# Altium footprint library CAP_VISHAY_K_SERIES_15_L2.PcbLib: 1 footprints
Each footprint in its own frame and in the unit in brackets; x right, y up, seen from the top. Pads: shape width x height; smd on the part's side, far side on the other; paste and mask are expansions set on the pad; w line width, h text height; cw(c..) or ccw(c..) is an arc to the next point about the centre after c.
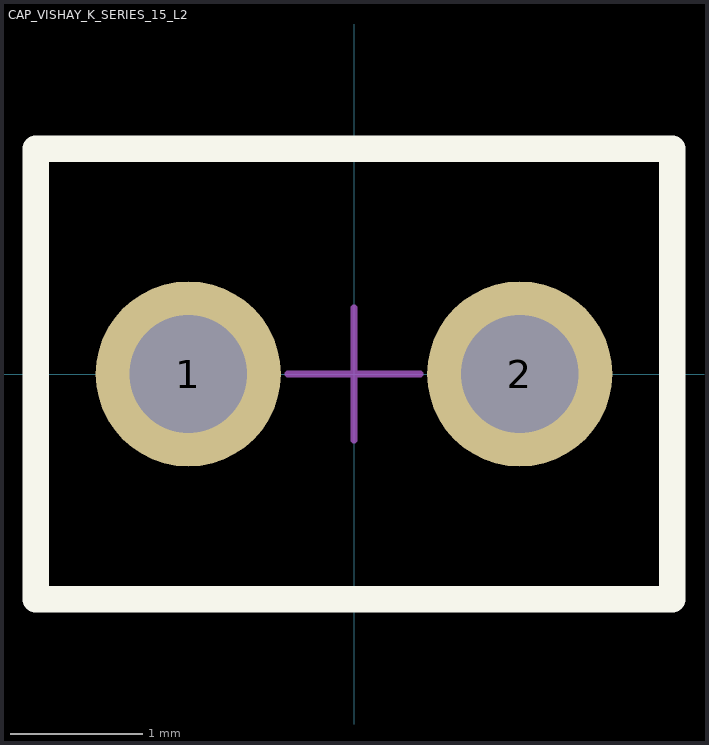
[diagram p0: the footprint, top view; thin cyan lines are the x and y axes]

## CAP_VISHAY_K_SERIES_15_L2 [mil] "Based on Vishay K series size code 15 lead style L2"
pads (2):
  round 55 hole 35: 1(-49.21,0) 2(49.21,0)
Top Overlay:
  lines w7.87: -94.49,-66.93 -94.49,66.93 94.49,66.93 94.49,-66.93 -94.49,-66.93
Mechanical 15:
  lines w1.97: -19.68,0 19.68,0 ; 0,-19.68 0,19.68 ; -94.49,-66.93 -94.49,66.93 94.49,66.93 94.49,-66.93 -94.49,-66.93
3D body: height 216.54, standoff -118.11, extent -78.74,-49.21 78.74,49.22